# Altium footprint library Amber.PcbLib: 63 footprints (part 4 of 4)
Each footprint in its own frame and in the unit in brackets; x right, y up, seen from the top. Pads: shape width x height; smd on the part's side, far side on the other; paste and mask are expansions set on the pad; w line width, h text height; cw(c..) or ccw(c..) is an arc to the next point about the centre after c.
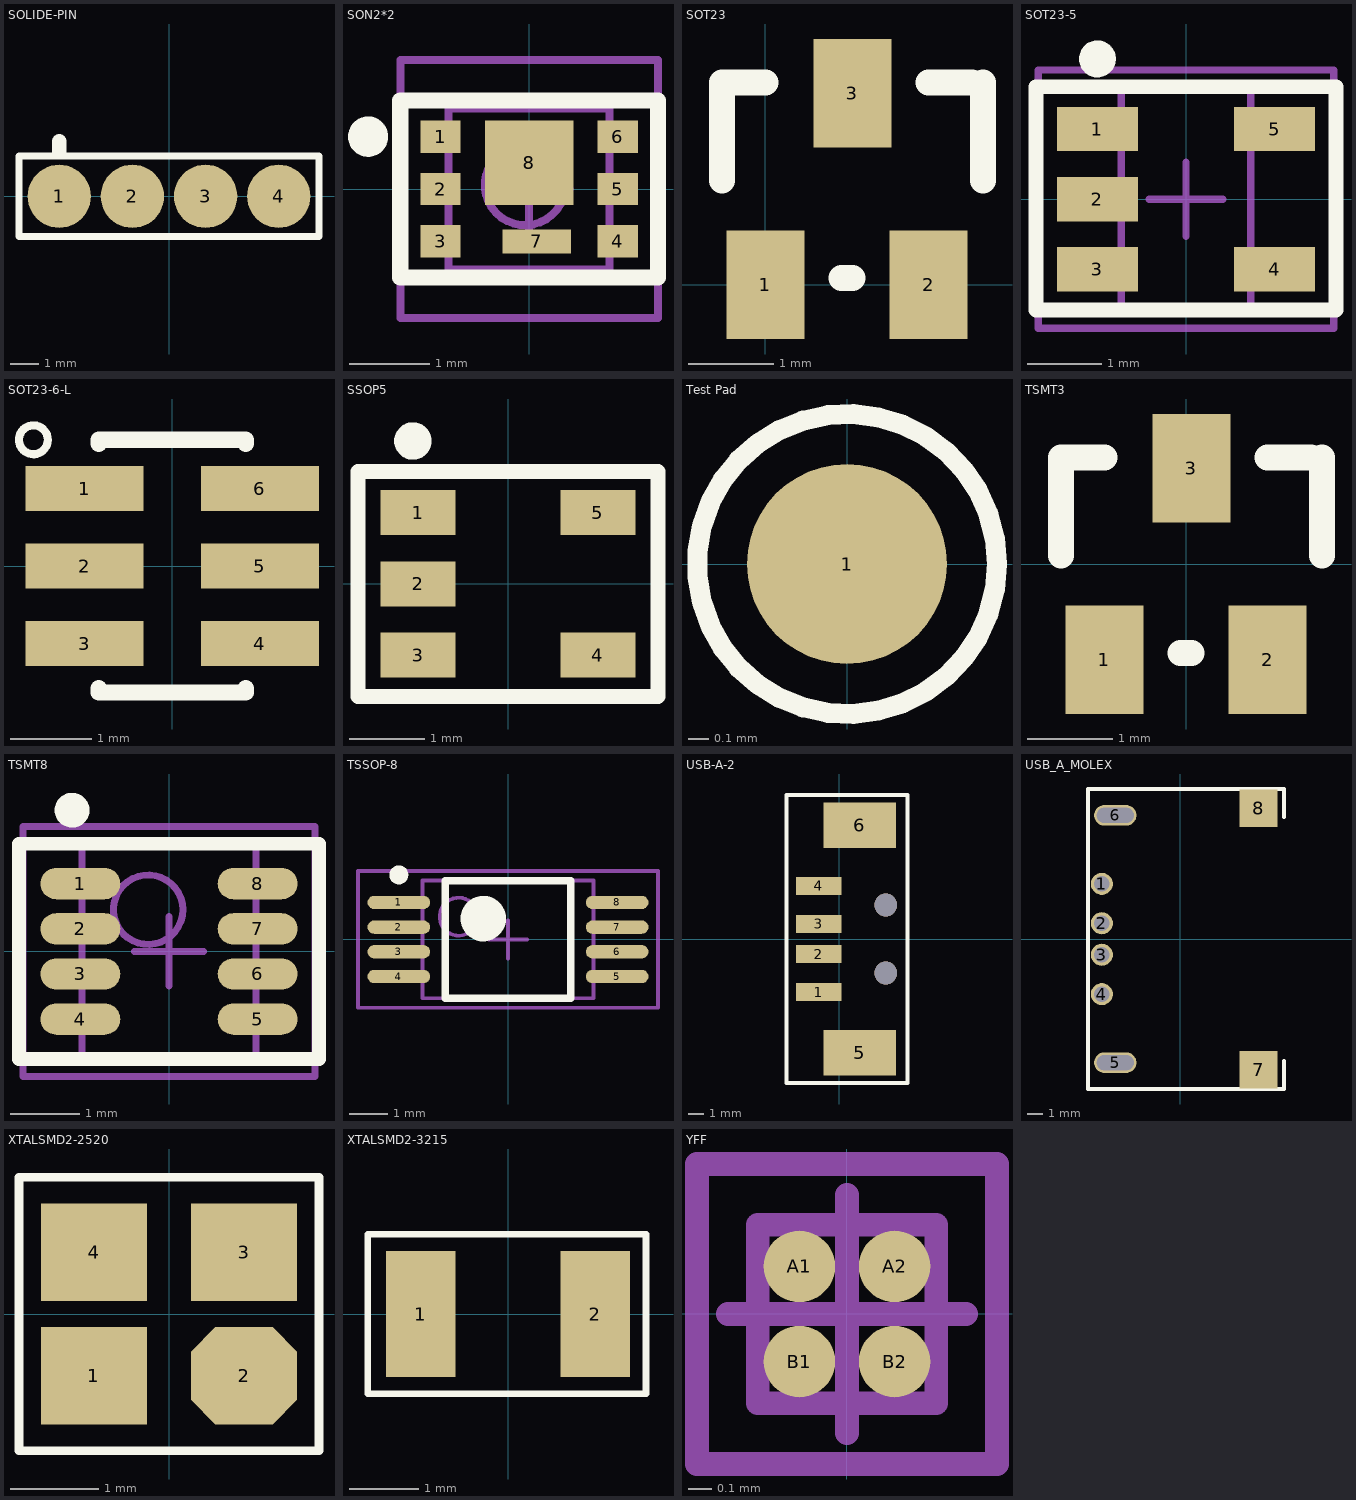
[diagram p3: the footprints below, top view; thin cyan lines are the x and y axes]

## SOLIDE-PIN [mm] "厂家：联立通，型号：LLT-144006"
pads (4):
  round 2.2 smd: 1(-3.81,0) 2(-1.27,0) 3(1.27,0) 4(3.81,0)
Top Overlay:
  lines w0.254: -5.207,-1.397 5.207,-1.397 5.207,1.397 -5.207,1.397 -5.207,-1.397
  lines w0.5: -3.81,1.524 -3.81,1.905

## SON2*2 [mm]
height 0.8
pads (8):
  rect 0.5x0.4 smd: 1(-1.1,0.65) 2(-1.1,0) 3(-1.1,-0.65) 4(1.1,-0.65) 5(1.1,0) 6(1.1,0.65)
  rect 0.85x0.3 smd: 7(0.095,-0.65)
  rect 1.1x1.05 smd: 8(0,0.325)
Top Overlay:
  circle w0.25: c-2,0.65 r0.125
  lines w0.2: -1.6,-1.1 1.6,-1.1 1.6,1.1 -1.6,1.1 -1.6,-1.1
Mechanical 13:
  circle w0.1: c-0.05,0.05 r0.5
  lines w0.1: -1,-1 -1,1 1,1 1,-1 -1,-1
Mechanical 15:
  lines w0.1: -0.5,0 0.5,0 ; 0,-0.5 0,0.5 ; -1.6,-1.6 -1.6,1.6 1.6,1.6 1.6,-1.6 -1.6,-1.6
3D body: height 0.8, standoff 0.05, extent -1,-1 1,1

## SOT23 [mil]
pads (3):
  rect 36x50 smd: 1(0,0) 2(75,0) 3(40,88)
Top Overlay:
  lines w12: -20,48 -20,93 0,93 ; 35,3 40,3 ; 75,93 95,93 ; 100,48 100,93
3D body: height 37.4, standoff 0, extent -22,-29.01 97,116.99

## SOT23-5 [mm] "厂家：ST，型号：STM6321硬件复位看门狗芯片"
pads (5):
  rect 1.1x0.6 smd: 1(-1.2,0.95) 2(-1.2,0) 3(-1.2,-0.95) 4(1.2,-0.95) 5(1.2,0.95)
Top Overlay:
  circle w0.25: c-1.2,1.9 r0.125
  lines w0.2: -2.032,-1.5 2.032,-1.5 2.032,1.524 -2.032,1.524 -2.032,-1.5
Mechanical 13:
  lines w0.1: -0.875,-1.5 -0.875,1.5 0.875,1.5 0.875,-1.5 -0.875,-1.5
Mechanical 15:
  lines w0.1: -0.5,0 0.5,0 ; 0,-0.5 0,0.5 ; -2,-1.75 -2,1.75 2,1.75 2,-1.75 -2,-1.75
3D body: height 1.45, standoff 0.15, extent -0.875,-1.5 0.875,1.5

## SOT23-6-L [mm]
pads (6):
  rect 1.45x0.55 smd: 1(-1.075,0.95) 2(-1.075,0) 3(-1.075,-0.95) 4(1.075,-0.95) 5(1.075,0) 6(1.075,0.95)
Top Overlay:
  circle w0.1: c-1.702,1.549 r0.177
  lines w0.2: -0.9,-1.5 -0.9,-1.55 0.9,-1.55 0.9,-1.5 ; -0.9,1.5 -0.9,1.55 0.9,1.55 0.9,1.5
3D body: height 1.08, standoff -0.01, extent -1.232,-1.397 1.194,1.397

## SSOP5 [mm]
pads (5):
  rect 1x0.6 smd: 1(-1.2,0.95) 2(-1.2,0) 3(-1.2,-0.95) 4(1.2,-0.95) 5(1.2,0.95)
Top Overlay:
  circle w0.25: c-1.268,1.905 r0.125
  lines w0.2: -2,-1.5 -2,1.5 2,1.5 2,-1.5 -2,-1.5

## Test Pad [mm]
pads (1):
  round 1 smd: 1(0,0)
Top Overlay:
  circle w0.1: c0,0 r0.75
3D body: height 0.1, standoff 0, extent -0.602,-0.602 0.602,0.602

## TSMT3 [mil]
pads (3):
  rect 36x50 smd: 1(-37.5,-44) 2(37.5,-44) 3(2.5,44)
Top Overlay:
  lines w12: -57.5,4 -57.5,49 -37.5,49 ; -2.5,-41 2.5,-41 ; 37.5,49 57.5,49 ; 62.5,4 62.5,49
3D body: height 39.37, standoff 0, extent -59.5,-73 59.5,73

## TSMT8 [mm] "TSOP, 8-Leads, Body 3.1x2.5mm (max), Pitch 0.65mm, IPC Medium Density"
height 0.85
pads (8):
  oval 1.15x0.45 smd: 1(-1.275,0.975) 2(-1.275,0.325) 3(-1.275,-0.325) 4(-1.275,-0.975) 5(1.275,-0.975) 6(1.275,-0.325) 7(1.275,0.325) 8(1.275,0.975)
Top Overlay:
  circle w0.25: c-1.395,2.032 r0.125
  lines w0.2: -2.159,-1.55 2.159,-1.55 2.159,1.55 -2.159,1.55 -2.159,-1.55
Mechanical 13:
  circle w0.1: c-0.3,0.6 r0.5
  lines w0.1: -1.25,-1.55 1.25,-1.55 1.25,1.55 -1.25,1.55 -1.25,-1.55
Mechanical 15:
  lines w0.1: -0.5,0 0.5,0 ; 0,-0.5 0,0.5 ; -2.1,-1.8 2.1,-1.8 2.1,1.8 -2.1,1.8 -2.1,-1.8
3D body: height 0.85, standoff 0.05, extent -1.25,-1.55 1.25,1.55

## TSSOP-8 [mm] "TSOP, 8-Leads, Body 3.1x4.5mm (max), Pitch 0.65mm, IPC Medium Density"
height 1.2
pads (8):
  oval 1.65x0.35 smd: 1(-2.875,0.975) 2(-2.875,0.325) 3(-2.875,-0.325) 4(-2.875,-0.975) 5(2.875,-0.975) 6(2.875,-0.325) 7(2.875,0.325) 8(2.875,0.975)
Top Overlay:
  circle w0.25: c-2.875,1.7 r0.125
  circle w0.6: c-0.65,0.55 r0.3
  lines w0.2: -1.65,-1.55 -1.65,1.55 1.65,1.55 1.65,-1.55 -1.65,-1.55
Mechanical 13:
  circle w0.1: c-1.3,0.6 r0.5
  lines w0.1: -2.25,-1.55 -2.25,1.55 2.25,1.55 2.25,-1.55 -2.25,-1.55
Mechanical 15:
  lines w0.1: -0.5,0 0.5,0 ; 0,-0.5 0,0.5 ; -3.95,-1.8 -3.95,1.8 3.95,1.8 3.95,-1.8 -3.95,-1.8
3D body: height 1.2, standoff 0.05, extent -2.25,-1.55 2.25,1.55

## USB-A-2 [mm]
pads (6):
  rect 3x1.2 smd: 1(-1.35,-3.5) 2(-1.35,-1) 3(-1.35,1) 4(-1.35,3.5)
  rect 4.8x3 smd: 5(1.35,-7.5) 6(1.35,7.5)
via 3.05,2.25 diameter 1.5 hole 1.5
via 3.05,-2.25 diameter 1.5 hole 1.5
Top Overlay:
  lines w0.254: -3.5,-9.5 4.5,-9.5 4.5,9.5 -3.5,9.5 -3.5,-9.5
3D body: height 7, standoff 0, extent -2.952,-9.102 3.852,9.102

## USB_A_MOLEX [mm] "厂家：MOLEX，型号：48258001_sd"
pads (8):
  round 1.4 hole 0.97: 1(-4.975,3.5) 2(-4.975,1) 3(-4.975,-1) 4(-4.975,-3.5)
  oval 2.7x1.3 hole 0.95 slot 2.35 at 0 deg: 5(-4.125,-7.85) 6(-4.125,7.85)
  rect 2.4x2.4 smd: 7(4.975,-8.3) 8(4.975,8.3)
Top Overlay:
  lines w0.254: 6.59,-7.747 6.59,-9.525 -5.856,-9.525 -5.856,9.525 6.59,9.525 6.59,7.747
3D body: height 5.12, standoff 0, extent -6.277,-9.602 6.277,9.602

## XTALSMD2-2520 [mm]
pads (4):
  rect 1.2x1.1 smd: 1(-0.85,-0.7) 3(0.85,0.7) 4(-0.85,0.7)
  oct 1.2x1.1 smd: 2(0.85,-0.7)
Top Overlay:
  lines w0.1: 1.676,-1.549 -1.7,-1.549 -1.7,1.55 1.7,1.55 1.7,-1.55
3D body: height 0.55, standoff 0, extent -1.552,-1.352 1.552,1.352

## XTALSMD2-3215 [mm]
pads (2):
  rect 1x1.8 smd: 1(-1.25,0) 2(1.25,0)
Top Overlay:
  lines w0.1: -2.01,-1.143 1.976,-1.143 1.976,1.143 -2.01,1.143 -2.01,-1.143
3D body: height 0.9, standoff 0, extent -1.852,-1.002 1.852,1.002

## YFF [mm] "BGA, 4-Leads, Body 0.8x0.8mm,  Pitch 0.40mm"
height 0.625
pads (4):
  round 0.3 smd: A1(-0.2,0.2) A2(0.2,0.2) B1(-0.2,-0.2) B2(0.2,-0.2)
Mechanical 13:
  lines w0.1: -0.375,-0.375 -0.375,0.375 0.375,0.375 0.375,-0.375 -0.375,-0.375
Mechanical 15:
  lines w0.1: -0.5,0 0.5,0 ; 0,-0.5 0,0.5 ; -0.63,-0.63 -0.63,0.63 0.63,0.63 0.63,-0.63 -0.63,-0.63
3D body: height 0.63, standoff 0.3, extent -0.375,-0.375 0.375,0.375